# Altium footprint library TPS55330_PCB_Library.PcbLib: 8 footprints
Each footprint in its own frame and in the unit in brackets; x right, y up, seen from the top. Pads: shape width x height; smd on the part's side, far side on the other; paste and mask are expansions set on the pad; w line width, h text height; cw(c..) or ccw(c..) is an arc to the next point about the centre after c.
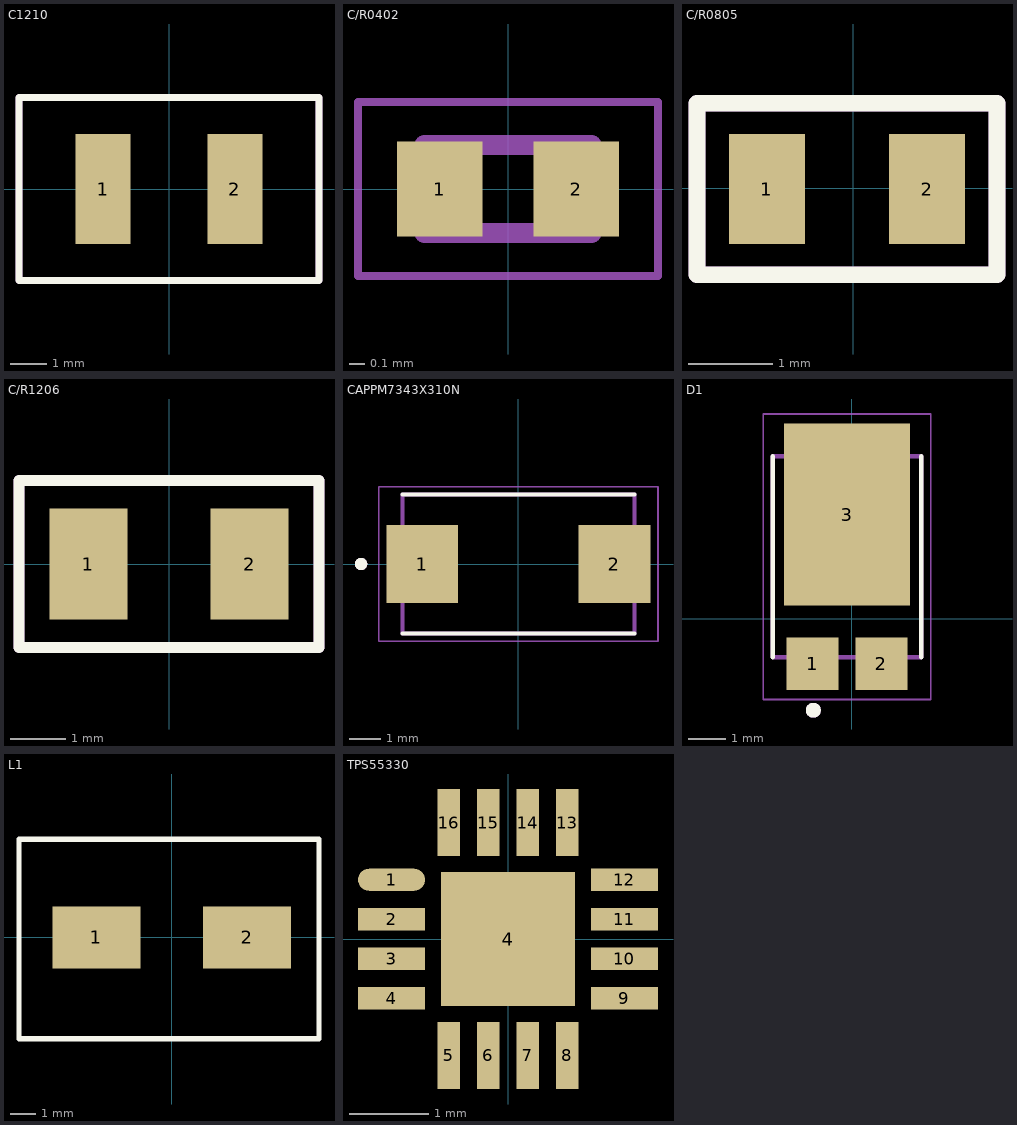
[diagram p0: the footprints below, top view; thin cyan lines are the x and y axes]

## C1210 [mm]
pads (2):
  rect 1.5x3 smd: 1(-1.8,0) 2(1.8,0)
Top Overlay:
  lines w0.2: -4.1,-2.5 -4.1,0 -4.1,2.5 4.1,2.5 4.1,-2.5 -4.1,-2.5
Mechanical 29:
  lines w0.2: -4.1,-2.5 4.1,-2.5 4.1,2.5 -4.1,2.5 -4.1,0 -4.1,-2.5
  text ".Designator" at -3.6,-1.7 h1
3D body "c1210x332jcgactu.stp": height 2.81, standoff 0.01, extent -1.85,-1.4 1.85,1.5

## C/R0402 [mm]
pads (2):
  rect 0.54x0.6 smd: 1(-0.432,0) 2(0.432,0)
Mechanical 4:
  lines w0.127: -0.53,-0.28 -0.53,0.28 ; -0.53,-0.28 0.53,-0.28 ; -0.53,-0.28 -0.53,0.28 ; -0.53,-0.28 0.53,-0.28 ; -0.53,0.28 0.53,0.28 ; -0.53,0.28 0.53,0.28 ; 0.53,-0.28 0.53,0.28 ; 0.53,-0.28 0.53,0.28
Mechanical 16:
  lines w0.05: -0.95,-0.55 -0.95,0.55 0.95,0.55 0.95,-0.55 -0.95,-0.55

## C/R0805 [mm]
pads (2):
  rect 0.9x1.3 smd: 1(-1.023,-0.006) 2(0.877,-0.006)
Top Overlay:
  lines w0.2: 1.705,-1.022 -1.851,-1.022 -1.851,1.01 1.705,1.01 1.705,-0.982
Mechanical 29:
  lines w0.2: -1.851,-1.022 1.705,-1.022 1.705,1.01 -1.851,1.01 -1.851,-1.022
  text ".Designator" at -1.673,-0.906 h0.6
3D body "CAPC2012X95N EIA 0805.step": height 0.96, standoff 0.01, extent -1.057,-0.606 0.943,0.594

## C/R1206 [mm]
pads (2):
  rect 1.4x2 smd: 1(-1.45,0) 2(1.45,0)
Top Overlay:
  lines w0.2: -2.7,-1.5 2.7,-1.5 2.7,1.5 -2.7,1.5 -2.7,-1.5
Mechanical 29:
  lines w0.2: -2.7,-1.5 -2.7,1.5 2.7,1.5 2.7,-1.5 -2.7,-1.5
  text ".Designator" at -2.4,-1 h0.6
3D body "CAP_ECPU_H2-M.stp": height 1.19, standoff 0, extent -1.702,-0.902 1.702,0.902

## CAPPM7343X310N [mm]
pads (2):
  rect 2.31x2.52 smd: 1(-3.1,0) 2(3.1,0)
Top Overlay:
  circle w0.2: c-5.08,0 r0.1
  lines w0.127: -3.75,-2.25 3.75,-2.25 ; -3.75,2.25 3.75,2.25
Mechanical 4:
  circle w0.2: c-5.08,0 r0.1
  circle w0.2: c-5.08,0 r0.1
  lines w0.127: -3.75,-2.25 3.75,-2.25 ; -3.75,-2.25 -3.75,2.25 ; -3.75,-2.25 3.75,-2.25 ; -3.75,-2.25 -3.75,2.25 ; -3.75,2.25 3.75,2.25 ; -3.75,2.25 3.75,2.25 ; 3.75,-2.25 3.75,2.25 ; 3.75,-2.25 3.75,2.25
Mechanical 16:
  lines w0.05: -4.505,-2.5 4.505,-2.5 4.505,2.5 -4.505,2.5 -4.505,-2.5
3D body "T495D106M035ATE125.step": height 3.11, standoff 0, extent -3.9,-2.2 3.7,2.4

## D1 [mm]
pads (3):
  rect 1.39x1.4 smd: 1(-1.047,-1.205) 2(0.793,-1.205)
  rect 3.36x4.86 smd: 3(-0.127,2.777)
Top Overlay:
  circle w0.2: c-1.027,-2.449 r0.1
  lines w0.127: -2.112,-1.034 -2.112,4.336 ; 1.858,-1.034 1.858,4.336
Top Paste:
  region: -1.187,4.317 0.933,4.317 0.933,1.237 -1.187,1.237
Mechanical 4:
  circle w0.2: c-1.027,-2.449 r0.1
  circle w0.2: c-1.027,-2.449 r0.1
  lines w0.127: -2.112,-1.034 -2.112,4.336 ; -2.112,-1.034 1.858,-1.034 ; -2.112,-1.034 -2.112,4.336 ; -2.112,-1.034 1.858,-1.034 ; -2.112,4.336 1.858,4.336 ; -2.112,4.336 1.858,4.336 ; 1.858,-1.034 1.858,4.336 ; 1.858,-1.034 1.858,4.336
Mechanical 16:
  lines w0.05: -2.362,-2.159 2.108,-2.159 2.108,5.461 -2.362,5.461 -2.362,-2.159
3D body "User Library-PowerDI-5.STEP": height 1.16, standoff 0.01, extent -2.145,-1.522 1.905,5.078

## L1 [mil]
pads (2):
  rect 135x95 smd: 1(-115,0) 2(115,0)
Top Overlay:
  lines w7.87: -233.43,-155 -233.43,0 -233.43,150 225,150 225,-155 -233.43,-155
3D body "IND_IHLP-2525EZ.step": height 199.02, standoff 0, extent -142.52,-132.52 142.52,132.52

## TPS55330 [mm]
pads (17):
  oval 0.85x0.28 smd: 1(-1.475,0.75)
  rect 0.85x0.28 smd: 2(-1.475,0.25) 3(-1.475,-0.25) 4(-1.475,-0.75) 9(1.475,-0.75) 10(1.475,-0.25) 11(1.475,0.25) 12(1.475,0.75)
  rect 1.7x1.7 smd: 4(0,0)
  rect 0.28x0.85 smd: 5(-0.75,-1.475) 6(-0.25,-1.475) 7(0.25,-1.475) 8(0.75,-1.475) 13(0.75,1.475) 14(0.25,1.475) 15(-0.25,1.475) 16(-0.75,1.475)
Top Overlay:
  lines w0.2: -0.515,-0.515 0.515,-0.515 0.515,0.515 0.445,0.515 -0.515,-0.445 -0.515,-0.515
3D body "User Library-S-PWQFN-N16.step": height 0.81, standoff 0.01, extent -1.51,-1.51 1.51,1.51